# Altium integrated library Inductors.IntLib: 24 symbols
Pins are listed as number, name and electrical type; pins without a type are passive.

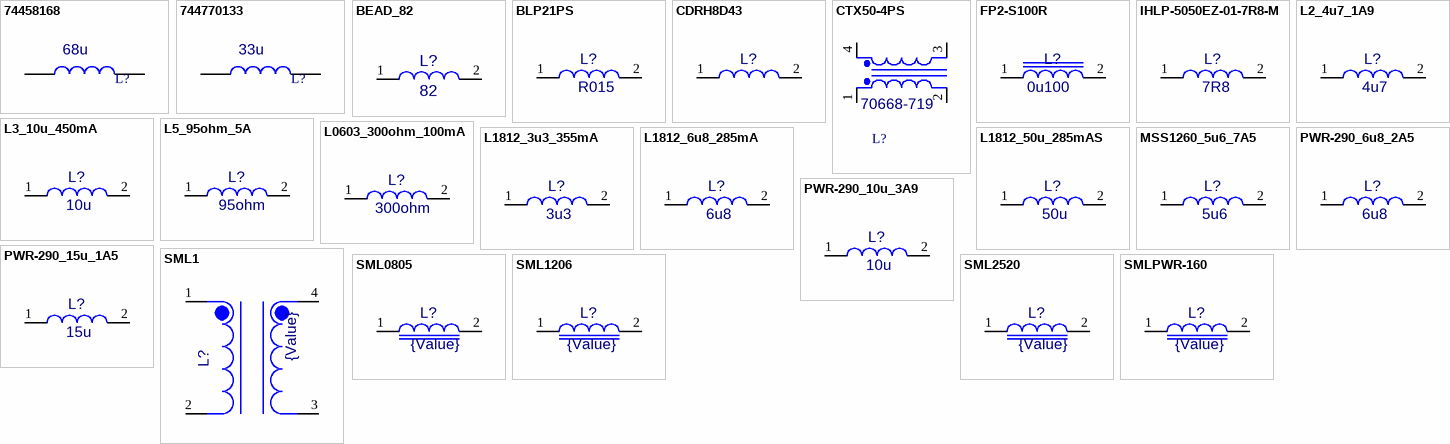
[diagram p0: symbols 74458168 to SMLPWR-160]

## 74458168
designator L?, comment value 68u  (hidden comment: 70668-741)
Inductor, Power, 74458168; Tolerance: 20%; ECAD_Revision: 1; Librarian: UK; PartNumber: 70668-741; Item: *; HelpURL: *
footprint SMLPWR-74458168 (REV 1)
pins: 1, 2

## 744770133
designator L?, comment value 33u  (hidden comment: AWT25-000139)
Inductor, Power, 744770133; Tolerance: 20%; ECAD_Revision: 1; Librarian: UK; PartNumber: AWT25-000139; Item: *; HelpURL: *
footprint WE-PD-XL (Wurth, Rev. 1)
pins: 1, 2

## BEAD_82
designator L?, comment value 82  (hidden comment: 27328-0024)
Bead Ferrite, 82 Ohms; ECAD_Revision: 1; Librarian: US; PartNumber: 27328-0024; Item: *
footprint L8
pins: 1, 2

## BLP21PS
designator L?, comment value R015  (hidden comment: 70668-731)
Inductor, Chip Ferrite, BLM21PG300SN1B; Power Rating: 3A; ECAD_Revision: 1; Librarian: US; PartNumber: 70668-731; Item: *
footprint L0805S
pins: 1, 2

## CDRH8D43
designator L?, comment TMP_US_CDRH8D43  (value not drawn)
Inductor, Power; ECAD_Revision: 1; Librarian: US; PartNumber: TMP_US_CDRH8D43; Item: *; HelpURL: K:\ACCELEDA\PDF Spec Files\INDUCTOR\CDRH8D43.PDF
footprint CDRH8D43 (Sumida Inductor)
pins: 1, 2

## CTX50-4PS
designator L?, comment 70668-719
Inductor, CTX50-4P; ECAD_Revision: 1; Librarian: US; Item: *; HelpURL: *; Tolerance: *; PartNumber: 70668-719; Value: 70668-719
footprint OPA4 (SM Inductor/Transformer; 4 Leads; Body 11.43 x 11.43 x 6.35 mm (LxWxH))
pins: 1 Pri+, 2 Pri-, 3 Sec-, 4 Sec+

## FP2-S100R
designator L?, comment value 0u100  (hidden comment: AWT25-500028)
Inductor, 0.100uH; ECAD_Revision: 2; Librarian: US; PartNumber: AWT25-500028; Power Rating: *; HelpURL: K:\ACCELEDA\PDF Spec Files\INDUCTOR\CoiltronicsFlatPac.pdf; Item: *
footprint FP2S (CooperBussmann FP2-S Series)
pins: 1, 2

## IHLP-5050EZ-01-7R8-M
designator L?, comment value 7R8  (hidden comment: AWT25-500120)
Inductor, 7.8uH 18 Amps; Tolerance: 20%; Power Rating: 18A; ECAD_Revision: 2; Librarian: US; PartNumber: AWT25-500120; Item: *; HelpURL: K:\ACCELEDA\PDF Spec Files\INDUCTOR\ih50ez01.pdf
footprint IHLP_5050EZ (Vishay Dale IHLP-5050EZ-01 Series)
pins: 1, 2

## L2_4u7_1A9
designator L?, comment value 4u7  (hidden comment: 52627-0095)
Inductor Power, 4.7u 1.9A; Power Rating: 1A9; ECAD_Revision: 1; Librarian: US; PartNumber: 52627-0095; HelpURL: K:\ACCELEDA\PDF Spec Files\INDUCTOR\PM428S.pdf; Item: *
footprint SML2
pins: 1, 2

## L3_10u_450mA
designator L?, comment value 10u  (hidden comment: 60208-0012)
Inductor, Choke 10u 450mA; ECAD_Revision: 1; Librarian: US; PartNumber: 60208-0012; HelpURL: K:\ACCELEDA\PDF Spec Files\INDUCTOR\PM428S.pdf; Item: *; Power Rating: 450mA
footprint SML2
footprint SML3
pins: 1, 2

## L5_95ohm_5A
designator L?, comment value 95ohm  (hidden comment: 27480-0028)
Inductor, 95 ohm 5A; ECAD_Revision: 1; Librarian: US; PartNumber: 27480-0028; Item: *; Power Rating: 5A
footprint SML5
pins: 1, 2

## L0603_300ohm_100mA
designator L?, comment value 300ohm  (hidden comment: 27480-0036)
Inductor, 300 Ohm 100mA; ECAD_Revision: 1; Librarian: US; PartNumber: 27480-0036; Item: *; Power Rating: 100mA
footprint SML0603
pins: 1, 2

## L1812_3u3_355mA
designator L?, comment value 3u3  (hidden comment: 60205-0189)
Inductor, 3.3u 355mA; ECAD_Revision: 1; Librarian: US; PartNumber: 60205-0189; Item: *; Power Rating: 355mA
footprint SML1812
pins: 1, 2

## L1812_6u8_285mA
designator L?, comment value 6u8  (hidden comment: 60205-0221)
Inductor, 6.8u 285mA; ECAD_Revision: 1; Librarian: US; PartNumber: 60205-0221; Item: *; Power Rating: 285mA
footprint SML1812
pins: 1, 2

## L1812_50u_285mAS
designator L?, comment value 50u  (hidden comment: 70668-719)
Inductor, 50u 285mA; ECAD_Revision: 1; Librarian: UK; PartNumber: 70668-719; Item: *; Power Rating: 285mA
footprint SML1812
pins: 1, 2

## MSS1260_5u6_7A5
designator L?, comment value 5u6  (hidden comment: AWT25-500090)
Inductor, 5.6uH 7.5A; Tolerance: 20%; Power Rating: 7A5; ECAD_Revision: 1; Librarian: US; PartNumber: AWT25-500090; Item: *; HelpURL: K:\ACCELEDA\PDF Spec Files\INDUCTOR\CoilCraft MSS1260.pdf
footprint MSS1260 (Coilcraft MSS1260 Series)
pins: 1, 2

## PWR-290_6u8_2A5
designator L?, comment value 6u8  (hidden comment: 52627-0038)
Inductor, Power 6.8u 2.5A; Power Rating: 2A5; ECAD_Revision: 1; Librarian: US; PartNumber: 52627-0038; Item: *
footprint SMLPWR-290
pins: 1, 2

## PWR-290_10u_3A9
designator L?, comment value 10u  (hidden comment: AWT25-500113)
Inductor, Power 10u 3.9A; Tolerance: 20%; Power Rating: 3A9; ECAD_Revision: 1; Librarian: US; PartNumber: AWT25-500113; Item: *; HelpURL: K:\ACCELEDA\PDF Spec Files\INDUCTOR\do3316.pdf
footprint SMLPWR-290
pins: 1, 2

## PWR-290_15u_1A5
designator L?, comment value 15u  (hidden comment: 52627-0053)
Inductor, Power 10u 1.5A; Power Rating: 1A5; ECAD_Revision: 1; Librarian: US; PartNumber: 52627-0053; Item: *
footprint SMLPWR-290
pins: 1, 2

## SML1
designator L?, comment value {Value}  (hidden comment: For future use)
INDUCTOR,; ECAD_Revision: 1; Librarian: US; PartNumber: For future use; Power Rating: *; HelpURL: K:\ACCELEDA\PDF Spec Files\INDUCTOR\CTX50.PDF; Item: *
footprint SML1
pins: 1, 2, 3, 4

## SML0805
designator L?, comment value {Value}  (hidden comment: For future use)
Inductor,; ECAD_Revision: 1; Librarian: US; PartNumber: For future use; Power Rating: *; Item: *
footprint SML0805
pins: 1, 2

## SML1206
designator L?, comment value {Value}  (hidden comment: For future use)
Inductor,; ECAD_Revision: 1; Librarian: US; PartNumber: For future use; Power Rating: *; Item: *
footprint SML1206
pins: 1, 2

## SML2520
designator L?, comment value {Value}  (hidden comment: For future use)
Inductor,; ECAD_Revision: 1; Librarian: US; PartNumber: For future use; Power Rating: *; Item: *
footprint SML2520
pins: 1, 2

## SMLPWR-160
designator L?, comment value {Value}  (hidden comment: For future use)
Inductor, Power; ECAD_Revision: 1; Librarian: US; PartNumber: For future use; Power Rating: *; Item: *
footprint SMLPWR-160
pins: 1, 2